# Altium schematic symbol library EC190708-3.SchLib: 1 symbol
Pins are listed as number, name and electrical type; pins without a type are passive.

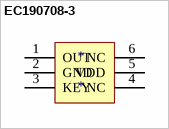
[diagram p0: symbol EC190708-3]

## EC190708-3
designator *
footprint SOT95P280X135-6N (SOT23, 6-Leads, Body 2.92x2.80mm, Pitch 0.95mm, IPC Medium Density)
pins: 1 OUT, 2 GND, 3 KEY, 4 NC, 5 VDD, 6 NC